# Altium footprint library SparkFun-Displays.PCBLIB: 26 footprints (part 1 of 2)
Each footprint in its own frame and in the unit in brackets; x right, y up, seen from the top. Pads: shape width x height; smd on the part's side, far side on the other; paste and mask are expansions set on the pad; w line width, h text height; cw(c..) or ccw(c..) is an arc to the next point about the centre after c.
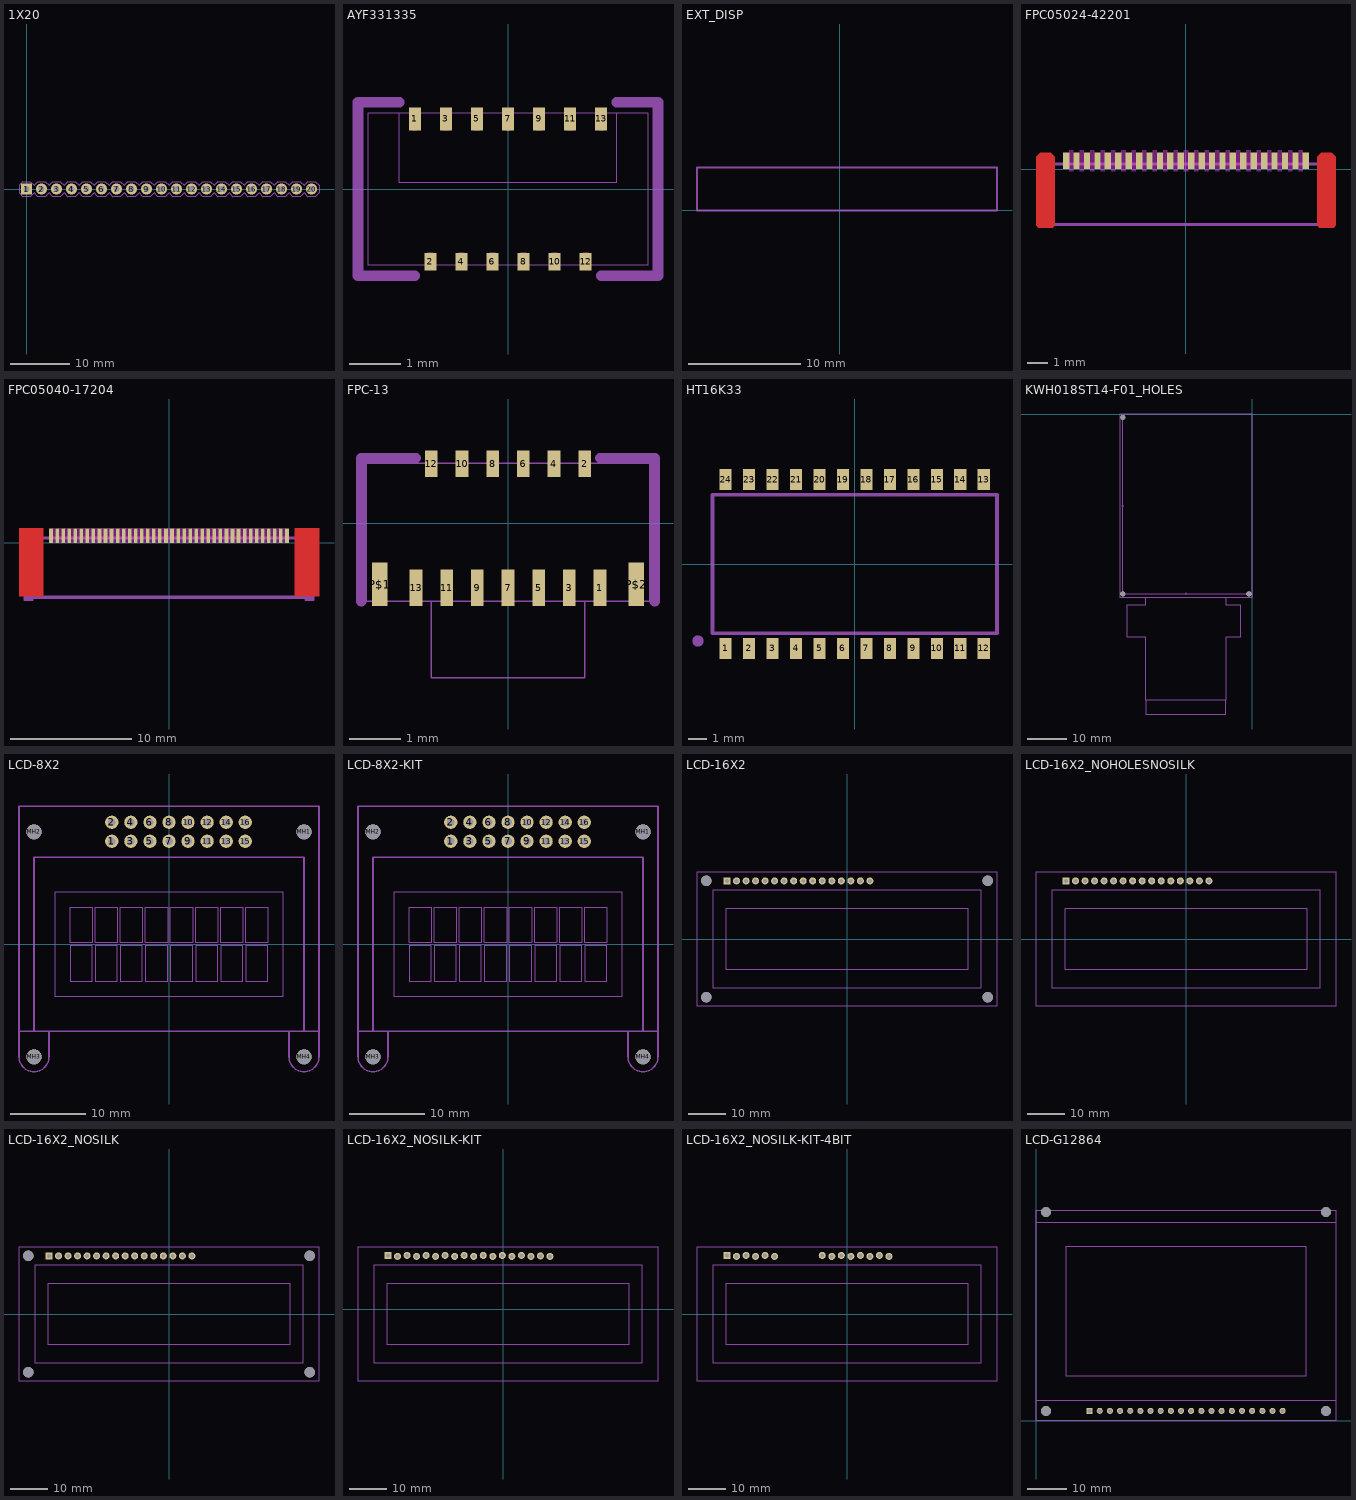
[diagram p0: the footprints below, top view; thin cyan lines are the x and y axes]

## 1X20 [mil]
pads (20):
  rect 74x74 / inner round 68.37 / far side rect 74x74 hole 40: 1(0,0)
  round 74 hole 40: 2(100,0) 3(200,0) 4(300,0) 5(400,0) 6(500,0) 7(600,0) 8(700,0) 9(800,0) 10(900,0) 11(1000,0) 12(1100,0) 13(1200,0) 14(1300,0) 15(1400,0) 16(1500,0) 17(1600,0) 18(1700,0) 19(1800,0) 20(1900,0)
tDocu:
  region: 590,-10 590,10 610,10 610,-10
  region: 490,-10 490,10 510,10 510,-10
  region: 390,-10 390,10 410,10 410,-10
  region: 290,-10 290,10 310,10 310,-10
  region: 190,-10 190,10 210,10 210,-10
  region: 90,-10 90,10 110,10 110,-10
  region: -10,-10 -10,10 10,10 10,-10
  region: 1290,-10 1290,10 1310,10 1310,-10
  region: 1190,-10 1190,10 1210,10 1210,-10
  region: 1090,-10 1090,10 1110,10 1110,-10
  region: 990,-10 990,10 1010,10 1010,-10
  region: 890,-10 890,10 910,10 910,-10
  region: 790,-10 790,10 810,10 810,-10
  region: 690,-10 690,10 710,10 710,-10
  region: 1390,-10 1390,10 1410,10 1410,-10
  region: 1490,-10 1490,10 1510,10 1510,-10
  region: 1590,-10 1590,10 1610,10 1610,-10
  region: 1690,-10 1690,10 1710,10 1710,-10
  region: 1790,-10 1790,10 1810,10 1810,-10
  region: 1890,-10 1890,10 1910,10 1910,-10
tPlace:
  lines w8: -50,-25 -50,25 -25,50 25,50 50,25 75,50 125,50 150,25 175,50 225,50 250,25 275,50 325,50 350,25 375,50 425,50 450,25 475,50 525,50 550,25 575,50 625,50 650,25 675,50 725,50 750,25 775,50 825,50 850,25 875,50 925,50 950,25 975,50 1025,50 1050,25 1075,50 1125,50 1150,25 1175,50 1225,50 1250,25 1275,50 1325,50 1350,25 1375,50 1425,50 1450,25 1475,50 1525,50 1550,25 1575,50 1625,50 1650,25 1675,50 1725,50 1750,25 1775,50 1825,50 1850,25 1875,50 1925,50 1950,25 1950,-25 1925,-50 1875,-50 1850,-25 1825,-50 1775,-50 1750,-25 1725,-50 1675,-50 1650,-25 1625,-50 1575,-50 1550,-25 1525,-50 1475,-50 1450,-25 1425,-50 1375,-50 1350,-25 1325,-50 1275,-50 1250,-25 1225,-50 1175,-50 1150,-25 1125,-50 1075,-50 1050,-25 1025,-50 975,-50 950,-25 925,-50 875,-50 850,-25 825,-50 775,-50 750,-25 725,-50 675,-50 650,-25 625,-50 575,-50 550,-25 525,-50 475,-50 450,-25 425,-50 375,-50 350,-25 325,-50 275,-50 250,-25 225,-50 175,-50 150,-25 125,-50 75,-50 50,-25 25,-50 -25,-50 -50,-25

## AYF331335 [mil]
pads (13):
  rect 9.06x17.32 smd: 1(-70.87,53.35) 3(-47.24,53.35) 5(-23.62,53.35) 7(0,53.35) 9(23.62,53.35) 11(47.24,53.35) 13(70.87,53.35)
  rect 9.06x13.39 smd: 2(-59.06,-55.32) 4(-35.43,-55.32) 6(-11.81,-55.32) 8(11.81,-55.32) 10(35.43,-55.32) 12(59.06,-55.32)
tDocu:
  region: 72.83,60.43 72.83,44.69 68.9,44.69 68.9,60.43
  region: 61.02,-48.62 61.02,-60.43 57.09,-60.43 57.09,-48.62
  region: 37.4,-48.62 37.4,-60.43 33.46,-60.43 33.46,-48.62
  region: 13.78,-48.62 13.78,-60.43 9.84,-60.43 9.84,-48.62
  region: -9.84,-48.62 -9.84,-60.43 -13.78,-60.43 -13.78,-48.62
  region: -33.46,-48.62 -33.46,-60.43 -37.4,-60.43 -37.4,-48.62
  region: -57.09,-48.62 -57.09,-60.43 -61.02,-60.43 -61.02,-48.62
  region: 49.21,60.43 49.21,44.69 45.28,44.69 45.28,60.43
  region: 25.59,60.43 25.59,44.69 21.65,44.69 21.65,60.43
  region: 1.97,60.43 1.97,44.69 -1.97,44.69 -1.97,60.43
  region: -21.65,60.43 -21.65,44.69 -25.59,44.69 -25.59,60.43
  region: -45.28,60.43 -45.28,44.69 -49.21,44.69 -49.21,60.43
  region: -68.9,60.43 -68.9,44.69 -72.83,44.69 -72.83,60.43
  lines w0.1: -82.68,58.07 -106.3,58.07 -106.3,-58.07 106.3,-58.07 106.3,58.07 82.68,58.07 ; -82.68,58.07 82.68,58.07 ; -82.68,58.07 -82.68,4.92 82.68,4.92 82.68,58.07
  text "FPC Depth" at 0,15.75 h8.5
tPlace:
  lines w8: -82.68,65.94 -114.17,65.94 -114.17,-65.94 -70.87,-65.94 ; 70.87,-65.94 114.17,-65.94 114.17,65.94 82.68,65.94

## EXT_DISP [mil]
tDocu:
  lines w6: -500,0 -500,150 550,150 550,0 -500,0
  text "External Display" at -450,50 h108.5

## FPC05024-42201 [mil]
pads (24):
  rect 11.81x31.5 smd: P$1(-226.38,15.75) P$2(-206.69,15.75) P$3(-187.01,15.75) P$4(-167.32,15.75) P$5(-147.64,15.75) P$6(-127.95,15.75) P$7(-108.27,15.75) P$8(-88.58,15.75) P$9(-68.9,15.75) P$10(-49.21,15.75) P$11(-29.53,15.75) P$12(-9.84,15.75) P$13(9.84,15.75) P$14(29.53,15.75) P$15(49.21,15.75) P$16(68.9,15.75) P$17(88.58,15.75) P$18(108.27,15.75) P$19(127.95,15.75) P$20(147.64,15.75) P$21(167.32,15.75) P$22(187.01,15.75) P$23(206.69,15.75) P$24(226.38,15.75)
Top:
  region: -248.03,23.62 -248.03,-106.3 -251.97,-110.24 -279.53,-110.24 -283.46,-106.3 -283.46,23.62 -275.59,31.5 -255.91,31.5
  region: 283.46,23.62 283.46,-106.3 279.53,-110.24 251.97,-110.24 248.03,-106.3 248.03,23.62 255.91,31.5 275.59,31.5
Top keep-out:
  region: -220.47,-3.94 -220.47,35.43 -212.6,35.43 -212.6,-3.94
  region: -200.79,-3.94 -200.79,35.43 -192.91,35.43 -192.91,-3.94
  region: -181.1,-3.94 -181.1,35.43 -173.23,35.43 -173.23,-3.94
  region: -161.42,-3.94 -161.42,35.43 -153.54,35.43 -153.54,-3.94
  region: -141.73,-3.94 -141.73,35.43 -133.86,35.43 -133.86,-3.94
  region: -122.05,-3.94 -122.05,35.43 -114.17,35.43 -114.17,-3.94
  region: -102.36,-3.94 -102.36,35.43 -94.49,35.43 -94.49,-3.94
  region: -82.68,-3.94 -82.68,35.43 -74.8,35.43 -74.8,-3.94
  region: -62.99,-3.94 -62.99,35.43 -55.12,35.43 -55.12,-3.94
  region: -43.31,-3.94 -43.31,35.43 -35.43,35.43 -35.43,-3.94
  region: -23.62,-3.94 -23.62,35.43 -15.75,35.43 -15.75,-3.94
  region: -3.94,-3.94 -3.94,35.43 3.94,35.43 3.94,-3.94
  region: 15.75,-3.94 15.75,35.43 23.62,35.43 23.62,-3.94
  region: 35.43,-3.94 35.43,35.43 43.31,35.43 43.31,-3.94
  region: 55.12,-3.94 55.12,35.43 62.99,35.43 62.99,-3.94
  region: 74.8,-3.94 74.8,35.43 82.68,35.43 82.68,-3.94
  region: 94.49,-3.94 94.49,35.43 102.36,35.43 102.36,-3.94
  region: 114.17,-3.94 114.17,35.43 122.05,35.43 122.05,-3.94
  region: 133.86,-3.94 133.86,35.43 141.73,35.43 141.73,-3.94
  region: 153.54,-3.94 153.54,35.43 161.42,35.43 161.42,-3.94
  region: 173.23,-3.94 173.23,35.43 181.1,35.43 181.1,-3.94
  region: 192.91,-3.94 192.91,35.43 200.79,35.43 200.79,-3.94
  region: 212.6,-3.94 212.6,35.43 220.47,35.43 220.47,-3.94
Top Paste:
  region: -273.62,-98.43 -273.62,-66.93 -257.87,-66.93 -257.87,-98.43
  region: 257.87,-98.43 257.87,-66.93 273.62,-66.93 273.62,-98.43
Top Solder:
  region: -273.62,-98.43 -273.62,-66.93 -257.87,-66.93 -257.87,-98.43
  region: 257.87,-98.43 257.87,-66.93 273.62,-66.93 273.62,-98.43
tDocu:
  lines w6: -275.59,-104.33 275.59,-104.33 275.59,9.84 0,9.84 -275.59,9.84 -275.59,-104.33

## FPC05040-17204 [mil]
pads (40):
  rect 11.81x47.24 smd: 1(-383.86,23.62) 2(-364.17,23.62) 3(-344.49,23.62) 4(-324.8,23.62) 5(-305.12,23.62) 6(-285.43,23.62) 7(-265.75,23.62) 8(-246.06,23.62) 9(-226.38,23.62) 10(-206.69,23.62) 11(-187.01,23.62) 12(-167.32,23.62) 13(-147.64,23.62) 14(-127.95,23.62) 15(-108.27,23.62) 16(-88.58,23.62) 17(-68.9,23.62) 18(-49.21,23.62) 19(-29.53,23.62) 20(-9.84,23.62) 21(9.84,23.62) 22(29.53,23.62) 23(49.21,23.62) 24(68.9,23.62) 25(88.58,23.62) 26(108.27,23.62) 27(127.95,23.62) 28(147.64,23.62) 29(167.32,23.62) 30(187.01,23.62) 31(206.69,23.62) 32(226.38,23.62) 33(246.06,23.62) 34(265.75,23.62) 35(285.43,23.62) 36(305.12,23.62) 37(324.8,23.62) 38(344.49,23.62) 39(364.17,23.62) 40(383.86,23.62)
Top:
  region: -409.45,47.24 -488.19,47.24 -488.19,-173.23 -409.45,-173.23
  region: 409.45,47.24 409.45,-173.23 488.19,-173.23 488.19,47.24
Top keep-out:
  region: -377.95,0 -377.95,47.24 -370.08,47.24 -370.08,0
  region: -358.27,0 -358.27,47.24 -350.39,47.24 -350.39,0
  region: -338.58,0 -338.58,47.24 -330.71,47.24 -330.71,0
  region: -318.9,0 -318.9,47.24 -311.02,47.24 -311.02,0
  region: -299.21,0 -299.21,47.24 -291.34,47.24 -291.34,0
  region: -279.53,0 -279.53,47.24 -271.65,47.24 -271.65,0
  region: -259.84,0 -259.84,47.24 -251.97,47.24 -251.97,0
  region: -240.16,0 -240.16,47.24 -232.28,47.24 -232.28,0
  region: -220.47,0 -220.47,47.24 -212.6,47.24 -212.6,0
  region: -200.79,0 -200.79,47.24 -192.91,47.24 -192.91,0
  region: -181.1,0 -181.1,47.24 -173.23,47.24 -173.23,0
  region: -161.42,0 -161.42,47.24 -153.54,47.24 -153.54,0
  region: -141.73,0 -141.73,47.24 -133.86,47.24 -133.86,0
  region: -122.05,0 -122.05,47.24 -114.17,47.24 -114.17,0
  region: -102.36,0 -102.36,47.24 -94.49,47.24 -94.49,0
  region: -82.68,0 -82.68,47.24 -74.8,47.24 -74.8,0
  region: -62.99,0 -62.99,47.24 -55.12,47.24 -55.12,0
  region: -43.31,0 -43.31,47.24 -35.43,47.24 -35.43,0
  region: -23.62,0 -23.62,47.24 -15.75,47.24 -15.75,0
  region: -3.94,0 -3.94,47.24 3.94,47.24 3.94,0
  region: 15.75,0 15.75,47.24 23.62,47.24 23.62,0
  region: 35.43,0 35.43,47.24 43.31,47.24 43.31,0
  region: 55.12,0 55.12,47.24 62.99,47.24 62.99,0
  region: 74.8,0 74.8,47.24 82.68,47.24 82.68,0
  region: 94.49,0 94.49,47.24 102.36,47.24 102.36,0
  region: 114.17,0 114.17,47.24 122.05,47.24 122.05,0
  region: 133.86,0 133.86,47.24 141.73,47.24 141.73,0
  region: 153.54,0 153.54,47.24 161.42,47.24 161.42,0
  region: 173.23,0 173.23,47.24 181.1,47.24 181.1,0
  region: 192.91,0 192.91,47.24 200.79,47.24 200.79,0
  region: 212.6,0 212.6,47.24 220.47,47.24 220.47,0
  region: 232.28,0 232.28,47.24 240.16,47.24 240.16,0
  region: 251.97,0 251.97,47.24 259.84,47.24 259.84,0
  region: 271.65,0 271.65,47.24 279.53,47.24 279.53,0
  region: 291.34,0 291.34,47.24 299.21,47.24 299.21,0
  region: 311.02,0 311.02,47.24 318.9,47.24 318.9,0
  region: 330.71,0 330.71,47.24 338.58,47.24 338.58,0
  region: 350.39,0 350.39,47.24 358.27,47.24 358.27,0
  region: 370.08,0 370.08,47.24 377.95,47.24 377.95,0
Top Paste:
  region: 413.39,-139.76 413.39,-61.02 484.25,-61.02 484.25,-139.76
  region: -484.25,-139.76 -484.25,-61.02 -413.39,-61.02 -413.39,-139.76
Top Solder:
  region: -488.19,-143.7 -488.19,-57.09 -409.45,-57.09 -409.45,-143.7
  region: 409.45,-143.7 409.45,-57.09 488.19,-57.09 488.19,-143.7
tDocu:
  lines w10: -462.6,-177.17 462.6,-177.17 462.6,15.75 -462.6,15.75 -462.6,-177.17
  text "Insert This Side" at -133.86,-165.35 h42.72
tPlace:
  circle w8: c-435,35 r4
  lines w8: -470,-160 -470,-185 -445,-185 ; -470,-5 -470,20 -445,20 ; 445,-185 470,-185 470,-160 ; 445,25 470,25 470,0

## FPC-13 [mil]
pads (15):
  rect 9.84x28.35 smd: 1(70.87,-49.8) 3(47.24,-49.8) 5(23.62,-49.8) 7(0,-49.8) 9(-23.62,-49.8) 11(-47.24,-49.8) 13(-70.87,-49.8)
  rect 9.84x20.47 smd: 2(59.06,45.87) 4(35.43,45.87) 6(11.81,45.87) 8(-11.81,45.87) 10(-35.43,45.87) 12(-59.06,45.87)
  rect 11.81x33.46 smd: P$1(-98.82,-47.24) P$2(98.82,-47.24)
tDocu:
  lines w1: -59.06,-60.04 -109.25,-60.04 -109.25,46.26 109.25,46.26 109.25,-60.04 59.06,-60.04 ; -59.06,-60.04 -59.06,-119.09 59.06,-119.09 59.06,-60.04 ; -59.06,-60.04 59.06,-60.04
  text "FPC Entry" at 0,-90.55 h15.5
tPlace:
  lines w8: -113.19,-60.04 -113.19,50.2 -71.06,50.2 ; 71.06,50.2 113.19,50.2 113.19,-60.04

## HT16K33 [mil]
pads (24):
  rect 26x45 smd: 1(-275,-180) 2(-225,-180) 3(-175,-180) 4(-125,-180) 5(-75,-180) 6(-25,-180) 7(25,-180) 8(75,-180) 9(125,-180) 10(175,-180) 11(225,-180) 12(275,-180) 13(275,180) 14(225,180) 15(175,180) 16(125,180) 17(75,180) 18(25,180) 19(-25,180) 20(-75,180) 21(-125,180) 22(-175,180) 23(-225,180) 24(-275,180)
tPlace:
  circle w20: c-334.06,-164.06 r1.97
  lines w8: -303.15,-147.64 303.15,-147.64 303.15,147.64 -303.15,147.64 -303.15,-147.64

## KWH018ST14-F01_HOLES [mil]
pads (3):
  round 50 hole 50 unplated: MH1(-1309.06,-33.46) MH2(-1309.06,-1816.93) MH3(-33.46,-1816.93)
tDocu:
  lines w6: -1074.8,-1850.39 -267.72,-1850.39 ; -1340.55,-1850.39 -1.97,-1850.39 0,0 -1340.55,0 -1340.55,-1850.39
  text "This side up (SCREEN UP)" at -1275.98,-185.43 h51
bDocu:
  lines w6: -1074.8,-1850.39 -267.72,-1850.39 ; -1340.55,-1850.39 -1.97,-1850.39 0,0 -1340.55,0 -1340.55,-1850.39
Document:
  lines w6: -1074.8,-1850.39 -1074.8,-1929.13 -1261.81,-1929.13 -1261.81,-2255.91 -1074.8,-2255.91 -1074.8,-2893.7 ; -267.72,-1850.39 -267.72,-1929.13 -120.08,-1929.13 -120.08,-2255.91 -267.72,-2255.91 -267.72,-2893.7 ; -1074.8,-2893.7 -267.72,-2893.7 ; -1074.8,-2893.7 -1074.8,-3031.5 -267.72,-3031.5 -267.72,-2893.7
  text "Contacts this side" at -1034.41,-2987.24 h42.5
  text "1" at -1051.18,-2870.08 h59.5
  text "40" at -397.64,-2870.08 h59.5
Reference:
  lines w6: -1320.87,-925.2 -1297.24,-925.2 ; -1309.06,-33.46 -1309.06,-1816.93 -33.46,-1816.93 ; -671.26,-1828.74 -671.26,-1805.12

## LCD-8X2 [mil]
pads (20):
  round 70 hole 39.37: 1(-300,540.55) 2(-300,640.55) 3(-200,540.55) 4(-200,640.55) 5(-100,540.55) 6(-100,640.55) 7(0,540.55) 8(0,640.55) 9(100,540.55) 10(100,640.55) 11(200,540.55) 12(200,640.55) 13(300,540.55) 14(300,640.55) 15(400,540.55) 16(400,640.55)
  round 78.74 hole 78.74 unplated: MH1(708.66,590.55) MH2(-708.66,590.55) MH3(-708.66,-590.55) MH4(708.66,-590.55)
tDocu:
  lines w5: -598.43,-273.62 -598.43,273.62 598.43,273.62 598.43,-273.62 -598.43,-273.62 ; -519.68,-194.88 -519.68,-7.87 -403.54,-7.87 -403.54,-194.88 -519.68,-194.88 ; -519.68,7.87 -519.68,194.88 -403.54,194.88 -403.54,7.87 -519.68,7.87 ; -387.8,-194.88 -387.8,-7.87 -271.65,-7.87 -271.65,-194.88 -387.8,-194.88 ; -387.8,7.87 -387.8,194.88 -271.65,194.88 -271.65,7.87 -387.8,7.87 ; -255.91,-194.88 -255.91,-7.87 -139.76,-7.87 -139.76,-194.88 -255.91,-194.88 ; -255.91,7.87 -255.91,194.88 -139.76,194.88 -139.76,7.87 -255.91,7.87 ; -124.02,-194.88 -124.02,-7.87 -7.87,-7.87 -7.87,-194.88 -124.02,-194.88 ; -124.02,7.87 -124.02,194.88 -7.87,194.88 -7.87,7.87 -124.02,7.87 ; 7.87,-194.88 7.87,-7.87 124.02,-7.87 124.02,-194.88 7.87,-194.88 ; 7.87,7.87 7.87,194.88 124.02,194.88 124.02,7.87 7.87,7.87 ; 139.76,-194.88 139.76,-7.87 255.91,-7.87 255.91,-194.88 139.76,-194.88 ; 139.76,7.87 139.76,194.88 255.91,194.88 255.91,7.87 139.76,7.87 ; 271.65,-194.88 271.65,-7.87 387.8,-7.87 387.8,-194.88 271.65,-194.88 ; 271.65,7.87 271.65,194.88 387.8,194.88 387.8,7.87 271.65,7.87 ; 403.54,-194.88 403.54,-7.87 519.68,-7.87 519.68,-194.88 403.54,-194.88 ; 403.54,7.87 403.54,194.88 519.68,194.88 519.68,7.87 403.54,7.87
  lines w8: -787.4,-456.69 -787.4,-590.55 ccw(c-708.66,-590.55) -629.92,-590.55 -629.92,-456.69 ; 629.92,-456.69 629.92,-590.55 ccw(c708.66,-590.55) 787.4,-590.55 787.4,-456.69 ; -708.66,-456.69 -708.66,456.69 708.66,456.69 708.66,-456.69 -708.66,-456.69
tPlace:
  lines w8: -787.4,-456.69 -787.4,724.41 787.4,724.41 787.4,-456.69 -787.4,-456.69

## LCD-8X2-KIT [mil]
pads (20):
  round 70 hole 39.37: 1(-300,540.55) 2(-300,640.55) 3(-200,540.55) 4(-200,640.55) 5(-100,540.55) 6(-100,640.55) 7(0,540.55) 8(0,640.55) 9(100,540.55) 10(100,640.55) 11(200,540.55) 12(200,640.55) 13(300,540.55) 14(300,640.55) 15(400,540.55) 16(400,640.55)
  round 78.74 hole 78.74 unplated: MH1(708.66,590.55) MH2(-708.66,590.55) MH3(-708.66,-590.55) MH4(708.66,-590.55)
Top Solder:
  drawing of 16 lines, arcs and shapes, not listed
Bottom Solder:
  drawing of 16 lines, arcs and shapes, not listed
tDocu:
  lines w5: -598.43,-273.62 -598.43,273.62 598.43,273.62 598.43,-273.62 -598.43,-273.62 ; -519.68,-194.88 -519.68,-7.87 -403.54,-7.87 -403.54,-194.88 -519.68,-194.88 ; -519.68,7.87 -519.68,194.88 -403.54,194.88 -403.54,7.87 -519.68,7.87 ; -387.8,-194.88 -387.8,-7.87 -271.65,-7.87 -271.65,-194.88 -387.8,-194.88 ; -387.8,7.87 -387.8,194.88 -271.65,194.88 -271.65,7.87 -387.8,7.87 ; -255.91,-194.88 -255.91,-7.87 -139.76,-7.87 -139.76,-194.88 -255.91,-194.88 ; -255.91,7.87 -255.91,194.88 -139.76,194.88 -139.76,7.87 -255.91,7.87 ; -124.02,-194.88 -124.02,-7.87 -7.87,-7.87 -7.87,-194.88 -124.02,-194.88 ; -124.02,7.87 -124.02,194.88 -7.87,194.88 -7.87,7.87 -124.02,7.87 ; 7.87,-194.88 7.87,-7.87 124.02,-7.87 124.02,-194.88 7.87,-194.88 ; 7.87,7.87 7.87,194.88 124.02,194.88 124.02,7.87 7.87,7.87 ; 139.76,-194.88 139.76,-7.87 255.91,-7.87 255.91,-194.88 139.76,-194.88 ; 139.76,7.87 139.76,194.88 255.91,194.88 255.91,7.87 139.76,7.87 ; 271.65,-194.88 271.65,-7.87 387.8,-7.87 387.8,-194.88 271.65,-194.88 ; 271.65,7.87 271.65,194.88 387.8,194.88 387.8,7.87 271.65,7.87 ; 403.54,-194.88 403.54,-7.87 519.68,-7.87 519.68,-194.88 403.54,-194.88 ; 403.54,7.87 403.54,194.88 519.68,194.88 519.68,7.87 403.54,7.87
  lines w8: -629.92,-456.69 -629.92,-590.55 cw(c-708.66,-590.55) -787.4,-590.55 -787.4,-456.69 ; 629.92,-456.69 629.92,-590.55 ccw(c708.66,-590.55) 787.4,-590.55 787.4,-456.69 ; -787.4,-456.69 -787.4,724.41 787.4,724.41 787.4,-456.69 ; -787.4,-456.69 787.4,-456.69 ; -708.66,-456.69 -708.66,456.69 708.66,456.69 708.66,-456.69 -708.66,-456.69

## LCD-16X2 [mil]
pads (20):
  rect 74x74 / inner round 68.37 / far side rect 74x74 hole 40: 1(-1259.84,610.24)
  round 74 hole 40: 2(-1159.84,610.24) 3(-1059.84,610.24) 4(-959.84,610.24) 5(-859.84,610.24) 6(-759.84,610.24) 7(-659.84,610.24) 8(-559.84,610.24) 9(-459.84,610.24) 10(-359.84,610.24) 11(-259.84,610.24) 12(-159.84,610.24) 13(-59.84,610.24) 14(40.16,610.24) 15(140.16,610.24) 16(240.16,610.24)
  round 110.24 hole 110.24 unplated: MH1(-1476.38,610.24) MH2(-1476.38,-610.24) MH3(1476.38,610.24) MH4(1476.38,-610.24)
tDocu:
  text "1" at -1350,600 h62
tPlace:
  lines w8: -1574.8,-708.66 1574.8,-708.66 1574.8,708.66 -1574.8,708.66 -1574.8,-708.66 ; -1403.54,-517.72 1403.54,-517.72 1403.54,517.72 -1403.54,517.72 -1403.54,-517.72
Measures:
  lines w8: -1269.69,-322.83 1269.69,-322.83 1269.69,322.83 -1269.69,322.83 -1269.69,-322.83

## LCD-16X2_NOHOLESNOSILK [mil]
pads (16):
  rect 74x74 / inner round 68.37 / far side rect 74x74 hole 40: 1(-1259.84,610.24)
  round 74 hole 40: 2(-1159.84,610.24) 3(-1059.84,610.24) 4(-959.84,610.24) 5(-859.84,610.24) 6(-759.84,610.24) 7(-659.84,610.24) 8(-559.84,610.24) 9(-459.84,610.24) 10(-359.84,610.24) 11(-259.84,610.24) 12(-159.84,610.24) 13(-59.84,610.24) 14(40.16,610.24) 15(140.16,610.24) 16(240.16,610.24)
tDocu:
  lines w8: -1574.8,-708.66 1574.8,-708.66 1574.8,708.66 -1574.8,708.66 -1574.8,-708.66 ; -1403.54,-517.72 1403.54,-517.72 1403.54,517.72 -1403.54,517.72 -1403.54,-517.72 ; -1269.69,-322.83 1269.69,-322.83 1269.69,322.83 -1269.69,322.83 -1269.69,-322.83
  text "1" at -1350,600 h62

## LCD-16X2_NOSILK [mil]
pads (20):
  rect 74x74 / inner round 68.37 / far side rect 74x74 hole 40: 1(-1259.84,610.24)
  round 74 hole 40: 2(-1159.84,610.24) 3(-1059.84,610.24) 4(-959.84,610.24) 5(-859.84,610.24) 6(-759.84,610.24) 7(-659.84,610.24) 8(-559.84,610.24) 9(-459.84,610.24) 10(-359.84,610.24) 11(-259.84,610.24) 12(-159.84,610.24) 13(-59.84,610.24) 14(40.16,610.24) 15(140.16,610.24) 16(240.16,610.24)
  round 110.24 hole 110.24 unplated: MH1(-1476.38,610.24) MH2(-1476.38,-610.24) MH3(1476.38,610.24) MH4(1476.38,-610.24)
tDocu:
  lines w8: -1574.8,-708.66 1574.8,-708.66 1574.8,708.66 -1574.8,708.66 -1574.8,-708.66 ; -1403.54,-517.72 1403.54,-517.72 1403.54,517.72 -1403.54,517.72 -1403.54,-517.72 ; -1269.69,-322.83 1269.69,-322.83 1269.69,322.83 -1269.69,322.83 -1269.69,-322.83
  text "1" at -1350,600 h62

## LCD-16X2_NOSILK-KIT [mil]
pads (18):
  rect 74x74 / inner round 68.37 / far side rect 74x74 hole 40: 1(-1209.84,565.24)
  round 74 hole 40: 2(-1109.84,555.24) 3(-1009.84,565.24) 4(-909.84,555.24) 5(-809.84,565.24) 6(-709.84,555.24) 7(-609.84,565.24) 8(-509.84,555.24) 9(-409.84,565.24) 10(-309.84,555.24) 11(-209.84,565.24) 12(-109.84,555.24) 13(-9.84,565.24) 14(90.16,555.24) 15(190.16,565.24) 16(290.16,555.24) 17(390.16,560.24) 18(490.16,555.24)
tDocu:
  lines w8: -1524.8,-758.66 1624.8,-758.66 1624.8,658.66 -1524.8,658.66 -1524.8,-758.66 ; -1353.54,-567.72 1453.54,-567.72 1453.54,467.72 -1353.54,467.72 -1353.54,-567.72 ; -1219.69,-372.83 1319.69,-372.83 1319.69,272.83 -1219.69,272.83 -1219.69,-372.83
  text "1" at -1300,550 h62

## LCD-16X2_NOSILK-KIT-4BIT [mil]
pads (14):
  rect 74x74 / inner round 68.37 / far side rect 74x74 hole 40: 1(-1259.84,615.24)
  round 74 hole 40: 2(-1159.84,605.24) 3(-1059.84,615.24) 4(-959.84,605.24) 5(-859.84,615.24) 6(-759.84,605.24) 11(-259.84,615.24) 12(-159.84,605.24) 13(-59.84,615.24) 14(40.16,605.24) 15(140.16,615.24) 16(240.16,605.24) 17(340.16,615.24) 18(440.16,605.24)
tDocu:
  lines w8: -1574.8,-708.66 1574.8,-708.66 1574.8,708.66 -1574.8,708.66 -1574.8,-708.66 ; -1403.54,-517.72 1403.54,-517.72 1403.54,517.72 -1403.54,517.72 -1403.54,-517.72 ; -1269.69,-322.83 1269.69,-322.83 1269.69,322.83 -1269.69,322.83 -1269.69,-322.83
  text "1" at -1350,600 h62

## LCD-G12864 [mil]
pads (24):
  rect 60x60 / inner round 55.43 / far side rect 60x60 hole 40: 1(527.56,98.43)
  round 60 hole 40: 2(627.56,98.43) 3(727.56,98.43) 4(827.56,98.43) 5(927.56,98.43) 6(1027.56,98.43) 7(1127.56,98.43) 8(1227.56,98.43) 9(1327.56,98.43) 10(1427.56,98.43) 11(1527.56,98.43) 12(1627.56,98.43) 13(1727.56,98.43) 14(1827.56,98.43) 15(1927.56,98.43) 16(2027.56,98.43) 17(2127.56,98.43) 18(2227.56,98.43) 19(2327.56,98.43) 20(2427.56,98.43)
  round 98.43 hole 98.43 unplated: MH1(98.43,98.43) MH2(98.43,2055.12) MH3(2854.33,2055.12) MH4(2854.33,98.43)
tPlace:
  lines w8: 0,196.85 0,0 2952.76,0 2952.76,196.85 ; 0,196.85 0,1956.69 ; 0,196.85 2952.76,196.85 ; 0,1956.69 0,2074.8 2952.76,2074.8 2952.76,1956.69 ; 0,1956.69 2952.76,1956.69 ; 2952.76,196.85 2952.76,1956.69 ; 295.28,437.01 295.28,1720.47 2657.48,1720.47 2657.48,437.01 295.28,437.01
  text "1" at 433.07,78.74 h34
  text "20" at 2519.69,78.74 h34